# Altium footprint library 28_PIN_PROJECT_v1.PcbLib: 26 footprints (part 1 of 2)
Each footprint in its own frame and in the unit in brackets; x right, y up, seen from the top. Pads: shape width x height; smd on the part's side, far side on the other; paste and mask are expansions set on the pad; w line width, h text height; cw(c..) or ccw(c..) is an arc to the next point about the centre after c.
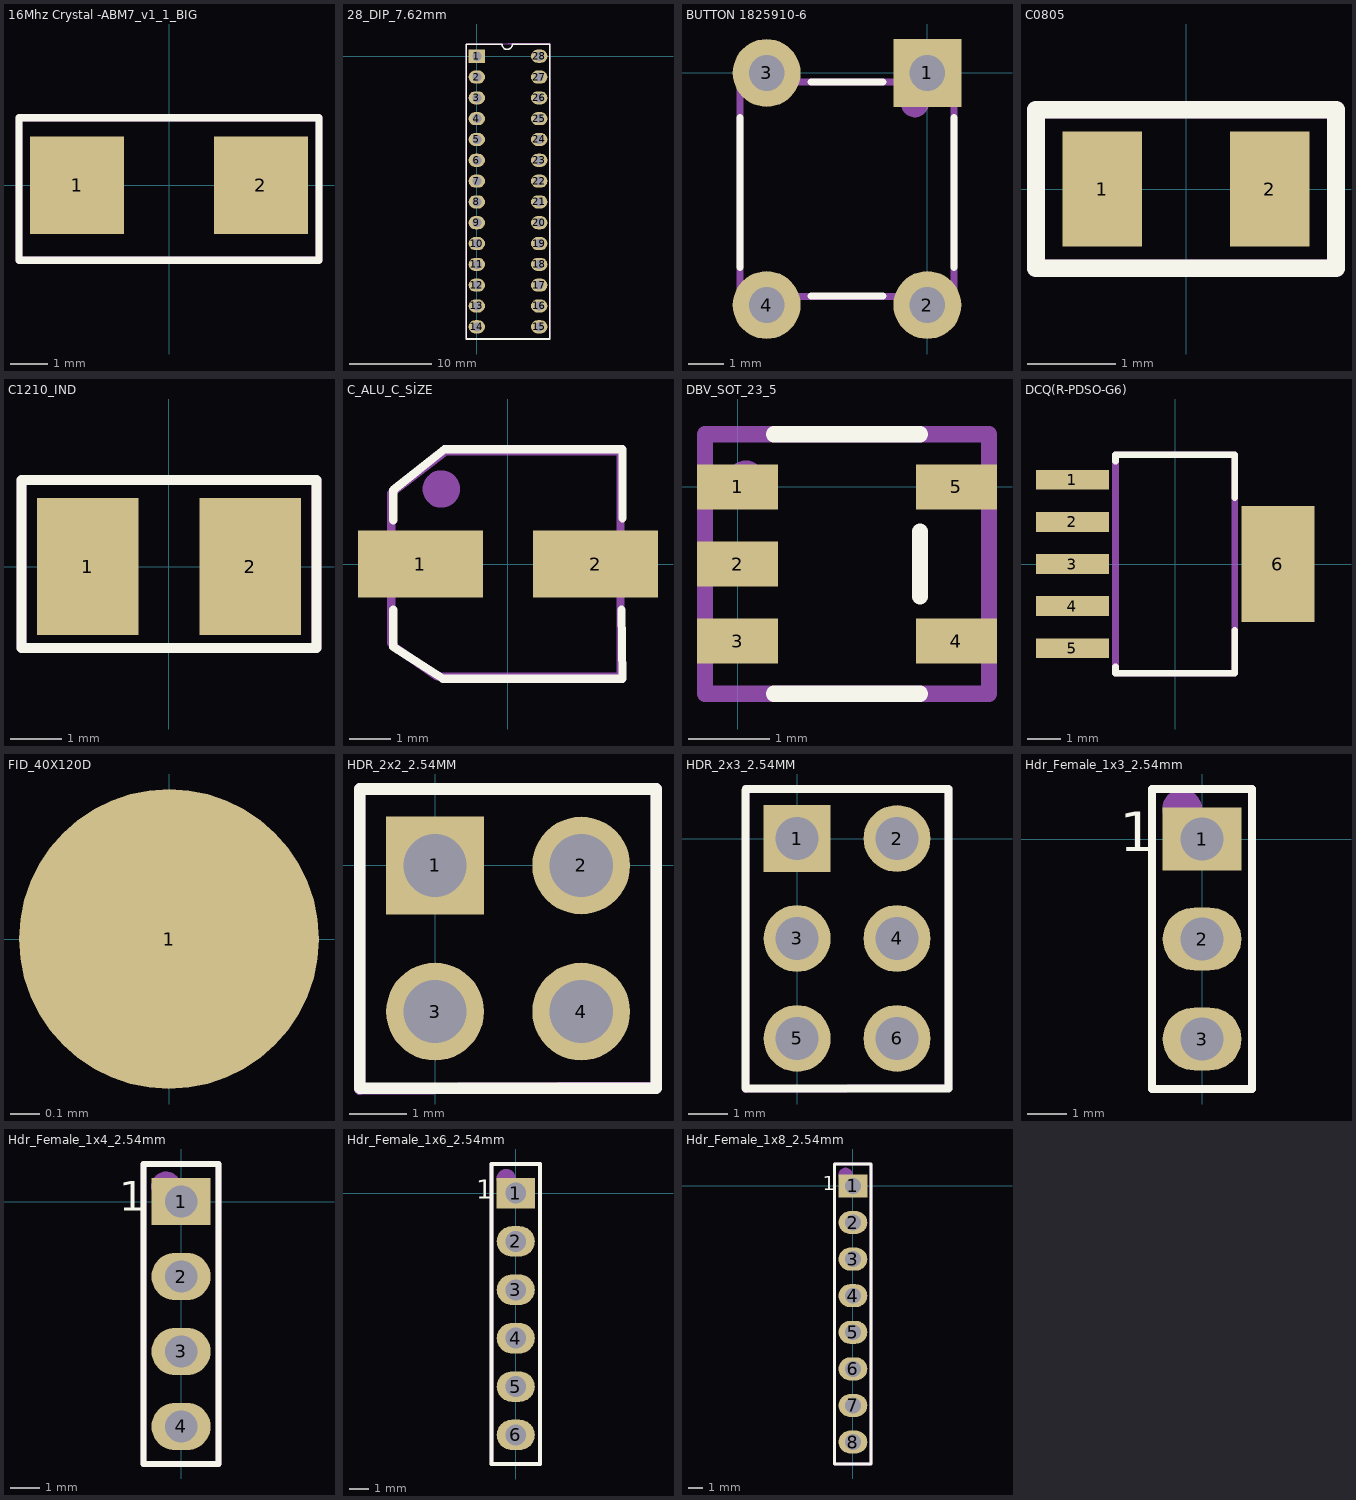
[diagram p0: the footprints below, top view; thin cyan lines are the x and y axes]

## 16Mhz Crystal -ABM7_v1_1_BIG [mm]
pads (2):
  rect 2.5x2.6 smd: 1(-2.45,0) 2(2.45,0)
Top Overlay:
  lines w0.2: -4,-2 4,-2 4,1.8 -4,1.8 -4,-2
Mechanical 29:
  lines w0.2: -4,-2 -4,1.8 4,1.8 4,-2 -4,-2
  text ".Designator" at -0.2,-0.112 h1
3D body "ABM7.STEP": height 1.41, standoff 0.01, extent -2.997,-1.853 2.997,1.653

## 28_DIP_7.62mm [mm]
pads (28):
  rect 2x1.6 hole 1.1: 1(0,0)
  oval 2x1.6 hole 1.1: 2(0,-2.54) 3(0,-5.08) 4(0,-7.62) 5(0,-10.16) 6(0,-12.7) 7(0,-15.24) 8(0,-17.78) 9(0,-20.32) 10(0,-22.86) 11(0,-25.4) 12(0,-27.94) 13(0,-30.48) 14(0,-33.02) 15(7.62,-33.02) 16(7.62,-30.48) 17(7.62,-27.94) 18(7.62,-25.4) 19(7.62,-22.86) 20(7.62,-20.32) 21(7.62,-17.78) 22(7.62,-15.24) 23(7.62,-12.7) 24(7.62,-10.16) 25(7.62,-7.62) 26(7.62,-5.08) 27(7.62,-2.54) 28(7.62,0)
Top Overlay:
  lines w0.2: -1.29,-34.51 -1.29,1.47 3.075,1.47 ccw(c3.71,1.47) 4.345,1.47 8.91,1.47 8.91,1.39 8.91,-34.51 -1.29,-34.51
Mechanical 29:
  circle w0.5: c-0.09,0.09 r0.2
  lines w0.2: -1.29,-34.51 8.91,-34.51 8.91,1.557 -1.29,1.457 -1.29,-34.51
  text ".Designator" at 4.636,-22.2 h3
3D body "User Library-28 pin dip-1.step": height 7.55, standoff 1.33, extent -0.264,-34.481 7.61,1.461

## 28_DIP_7.62mm_SOCKET [mm]
3D body "dil_socket.stp": height 4.2, standoff -3.17, extent -1.24,-34.26 8.86,1.24

## BUTTON 1825910-6 [mm]
pads (4):
  rect 1.9x1.9 hole 1: 1(0,0)
  round 1.9 hole 1: 2(0,-6.5) 3(-4.5,0) 4(-4.5,-6.5)
Top Overlay:
  lines w0.2: -5.25,-5.45 -5.25,-1.25 ; -3.25,-6.25 -1.25,-6.25 ; -3.25,-0.25 -1.25,-0.25 ; 0.75,-5.45 0.75,-1.25
Mechanical 29:
  circle w0.5: c-0.35,-0.85 r0.141
  lines w0.2: -5.25,-6.258 0.75,-6.258 ; -5.25,-6.25 -5.25,-0.25 0.75,-0.25 0.75,-6.25
  text ".Designator" at -1.663,-4.1 h1
3D body "User Library-FSM4JH(1825910-6).step": height 5.01, standoff -3.5, extent -5.245,-7.148 0.745,0.65

## C0805 [mm]
pads (2):
  rect 0.9x1.3 smd: 1(-0.95,0) 2(0.95,0)
Top Overlay:
  lines w0.2: -1.7,-0.9 1.7,-0.9 1.7,0.9 -1.7,0.9 -1.7,-0.9
Mechanical 29:
  lines w0.2: -1.7,-0.9 -1.7,0.9 1.7,0.9 1.7,-0.9 -1.7,-0.9
  text ".Designator" at -0.775,-0.108 h0.5
3D body "CAPC2012X94N EIA 0805.step": height 1.45, standoff 0.51, extent -1,-0.6 1,0.6
3D body "CAPC2012X94N EIA 0805.step": height 0.95, standoff 0.01, extent -1,-0.6 1,0.6

## C1210_IND [mm]
pads (2):
  rect 2x2.7 smd: 1(-1.6,0) 2(1.6,0)
Top Overlay:
  lines w0.2: -2.9,-1.6 -2.9,1.7 2.9,1.7 2.9,-1.6 -2.9,-1.6
Mechanical 29:
  lines w0.2: -2.9,-1.6 2.9,-1.6 2.9,1.7 -2.9,1.7 -2.9,-1.6
  text ".Designator" at -0.6,-0.112 h1
3D body: height 2.7, standoff -0.01, extent 1.3,-1.3 1.7,1.3
3D body: height 2.7, standoff -0.01, extent -1.7,-1.3 -1.3,1.3
3D body: height 2.7, standoff -0.01, extent -1.3,-1.3 1.3,1.3

## C_ALU_C_SİZE [mm]
pads (2):
  rect 3x1.6 smd: 1(-2.1,0) 2(2.1,0)
Top Overlay:
  lines w0.2: -2.75,-1.1 -2.75,-1.992 -1.566,-2.75 2.75,-2.75 2.725,-1.1 ; -2.75,1.05 -2.75,1.775 -1.525,2.75 2.75,2.75 2.75,1.1
Mechanical 29:
  circle w0.5: c-1.6,1.8 r0.2
  lines w0.2: -2.8,-1.9 -2.8,1.7 -1.5,2.7 2.7,2.7 2.7,-2.7 -1.7,-2.7 -2.7,-2
  text ".Designator" at -0.3,-0.112 h1
3D body "User Library-capacitor size C.step": height 5.41, standoff -0.01, extent -2.95,-2.65 2.95,2.65

## DBV_SOT_23_5 [mm]
pads (5):
  rect 1x0.55 smd: 1(0,0) 2(0,-0.95) 3(0,-1.9) 4(2.7,-1.9) 5(2.7,0)
Top Overlay:
  lines w0.2: 0.45,-2.55 2.25,-2.55 ; 0.45,0.65 2.25,0.65 ; 2.25,-1.35 2.25,-0.55
Mechanical 29:
  circle w0.254: c0.1,0.1 r0.1
  lines w0.2: -0.4,-2.55 3.1,-2.55 3.1,0.65 -0.4,0.65 -0.4,-2.55
  text ".Designator" at 1.512,-1.5 h1
3D body "User Library-TPS79333DBVR.step": height 1.6, standoff -0.02, extent -0.203,-2.475 2.825,0.575

## DCQ(R-PDSO-G6) [mm]
pads (6):
  rect 2.2x0.6 smd: 1(-3.1,2.54) 2(-3.1,1.27) 3(-3.1,0) 4(-3.1,-1.27) 5(-3.1,-2.54)
  rect 2.2x3.5 smd: 6(3.1,0)
Top Overlay:
  lines w0.2: -1.8,-3.1 -1.8,-3.3 1.8,-3.3 1.8,-2 ; -1.8,3.1 -1.8,3.3 1.8,3.3 1.8,2
Mechanical 29:
  lines w0.2: -1.8,-3.3 -1.8,3.3 1.8,3.3 1.8,-3.3 -1.8,-3.3
  text ".Designator" at 0.312,-0.1 h1
3D body "User Library-TPS73701DCQ.step": height 1.79, standoff -0.01, extent -3.63,-3.275 3.63,3.275

## FID_40X120D [mil]
pads (1):
  round 40 smd paste-40 mask+40: 1(0,0)

## HDR_2x2_2.54MM [mm]
pads (4):
  rect 1.7x1.7 hole 1.1: 1(0,0)
  round 1.7 hole 1.1: 2(2.54,0) 3(0,-2.54) 4(2.54,-2.54)
Top Overlay:
  lines w0.2: -1.308,-3.87 -1.308,1.33 3.845,1.33 3.845,-3.87 -1.308,-3.87
Mechanical 29:
  lines w0.2: -1.305,-3.886 3.845,-3.859 3.845,1.33 -1.305,1.33 -1.305,-3.886
  text ".Designator" at 1.412,-1.6 h1
3D body "961204-6404-XX.stp": height 7.51, standoff -3.79, extent -1.225,-3.83 3.775,1.25

## HDR_2x3_2.54MM [mm]
pads (6):
  rect 1.7x1.7 hole 1.1: 1(0,0)
  round 1.7 hole 1.1: 2(2.54,0) 3(0,-2.54) 4(2.54,-2.54) 5(0,-5.08) 6(2.54,-5.08)
Top Overlay:
  lines w0.2: -1.308,1.229 -1.308,-6.347 -1.305,-6.35 3.845,-6.35 3.845,1.26 -1.305,1.26
Mechanical 29:
  lines w0.2: -1.305,-6.366 -1.305,1.26 3.845,1.26 3.845,-6.339 -1.305,-6.366
  text ".Designator" at 1.332,-2.715 h1
3D body "User Library-2x3 Header.step": height 8.51, standoff -2.99, extent -1.255,-6.35 3.785,1.27

## Hdr_Female_1x3_2.54mm [mm]
pads (3):
  rect 2x1.6 hole 1.1: 1(0,0)
  oval 2x1.6 hole 1.1: 2(0,-2.54) 3(0,-5.08)
Top Overlay:
  lines w0.2: -1.27,-6.35 1.27,-6.35 1.27,1.27 -1.27,1.27 -1.27,-6.35
  text "1" at -2.086,-0.308 h1
Mechanical 29:
  circle w0.5: c-0.508,0.762 r0.254
  lines w0.2: -1.27,-6.35 1.27,-6.35 1.27,1.27 -1.27,1.27 -1.27,-6.35
  text ".Designator" at 0.48,-3.556 h1.5
3D body "HDR_1x3_White.stp": height 8.19, standoff -3.31, extent -1.21,-6.15 1.2,1.07

## Hdr_Female_1x4_2.54mm [mm]
pads (4):
  rect 2x1.6 hole 1.1: 1(0,0)
  oval 2x1.6 hole 1.1: 2(0,-2.54) 3(0,-5.08) 4(0,-7.62)
Top Overlay:
  lines w0.2: -1.27,-8.89 1.27,-8.89 1.27,1.27 -1.27,1.27 -1.27,-8.89
  text "1" at -2.086,-0.308 h1
Mechanical 29:
  circle w0.5: c-0.508,0.508 r0.254
  lines w0.2: -1.27,-8.89 1.27,-8.89 1.27,1.27 -1.27,1.27 -1.27,-8.89
  text ".Designator" at 0.226,-5.334 h1.5
3D body "HDR_1x4_White.stp": height 8.4, standoff -3.1, extent -1.21,-8.68 1.2,1.08

## Hdr_Female_1x6_2.54mm [mm]
pads (6):
  rect 2x1.6 hole 1.1: 1(0,0)
  oval 2x1.6 hole 1.1: 2(0,-2.54) 3(0,-5.08) 4(0,-7.62) 5(0,-10.16) 6(0,-12.7)
Top Overlay:
  lines w0.2: -1.27,-14.224 -1.27,1.524 1.27,1.524 1.27,-14.224 -1.27,-14.224
  text "1" at -2.086,-0.308 h1
Mechanical 29:
  circle w0.5: c-0.508,0.762 r0.254
  lines w0.2: -1.27,-14.224 -1.27,1.524 1.27,1.524 1.27,-14.224 -1.27,-14.224
  text ".Designator" at 0.706,-7.62 h3
3D body "m20-7820646_asm.stp": height 8.51, standoff -2.99, extent -1.25,-14.17 1.25,1.47

## Hdr_Female_1x8_2.54mm [mm]
pads (8):
  rect 2x1.6 hole 1.1: 1(0,0)
  oval 2x1.6 hole 1.1: 2(0,-2.54) 3(0,-5.08) 4(0,-7.62) 5(0,-10.16) 6(0,-12.7) 7(0,-15.24) 8(0,-17.78)
Top Overlay:
  lines w0.2: -1.27,-19.304 -1.27,1.524 1.27,1.524 1.27,-19.304 -1.27,-19.304
  text "1" at -2.086,-0.308 h1
Mechanical 29:
  circle w0.5: c-0.508,0.762 r0.254
  lines w0.2: -1.27,-19.304 -1.27,1.524 1.27,1.524 1.27,-19.304 -1.27,-19.304
  text ".Designator" at 0.706,-11.176 h3
3D body "m20-7820842_asm.stp": height 8.5, standoff -3, extent -1.27,-19.25 1.23,1.47